# EAGLE library part NRF52840-QI (library IC_Wireless-RF)
Bluetooth®5, IEEE 802.15.4-2006, 2.4 GHz transceiver - SoC Datasheet <https://infocenter.nordicsemi.com/pdf/nRF52840_PS_v1.1.pdf> Note : This Part needs to add a thermal vias on VSS_PAD while designing a board.
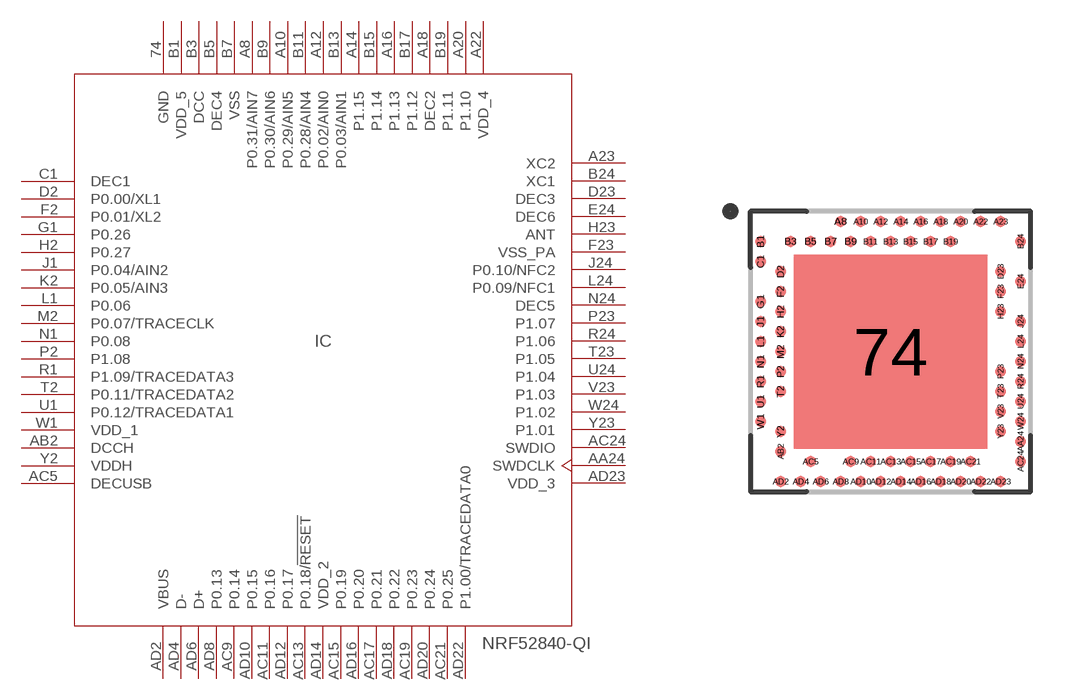
[diagram p19: symbol with the pads of NRF52840-QIAA; footprint NRF52840-QIAA]

Designator prefix IC

## NRF52840-QIAA-R (CATEGORY: IC_Wireless-RF; DESCRIPTION: Bluetooth ® 5, IEEE 802.15.4-2006, 2.4 GHz transceiver; FREQUENCY: 64MHz; IO: 48; MANUFACTURER: Nordic Semiconductor; MPN: nRF52840-QIAA-R; PART_STATUS: Active; ROHS_COMPLIANT: COMPLIANT; SERIES: nRF52840; SUB-CATEGORY: Bluetooth; VALUE: NRF52840)  [NRF52840-QIAA]
74  GND  pwr
A8  P0.31/AIN7
A10  P0.29/AIN5
A12  P0.02/AIN0
A14  P1.15
A16  P1.13
A18  DEC2  pwr
A20  P1.10
A22  VDD_4  pwr
A23  XC2  in
AA24  SWDCLK  in
AB2  DCCH  pwr
AC5  DECUSB  pwr
AC9  P0.14
AC11  P0.16
AC13  P0.18/!RESET
AC15  P0.19
AC17  P0.21
AC19  P0.23
AC21  P0.25
AC24  SWDIO
AD2  VBUS  pwr
AD4  D-
AD6  D+
AD8  P0.13
AD10  P0.15
AD12  P0.17
AD14  VDD_2  pwr
AD16  P0.20
AD18  P0.22
AD20  P0.24
AD22  P1.00/TRACEDATA0
AD23  VDD_3  pwr
B1  VDD_5  pwr
B3  DCC  pwr
B5  DEC4  pwr
B7  VSS  pwr
B9  P0.30/AIN6
B11  P0.28/AIN4
B13  P0.03/AIN1
B15  P1.14
B17  P1.12
B19  P1.11
B24  XC1  in
C1  DEC1  pwr
D2  P0.00/XL1
D23  DEC3  pwr
E24  DEC6  pwr
F2  P0.01/XL2
F23  VSS_PA  pwr
G1  P0.26
H2  P0.27
H23  ANT
J1  P0.04/AIN2
J24  P0.10/NFC2
K2  P0.05/AIN3
L1  P0.06
L24  P0.09/NFC1
M2  P0.07/TRACECLK
N1  P0.08
N24  DEC5  pwr
P2  P1.08
P23  P1.07
R1  P1.09/TRACEDATA3
R24  P1.06
T2  P0.11/TRACEDATA2
T23  P1.05
U1  P0.12/TRACEDATA1
U24  P1.04
V23  P1.03
W1  VDD_1  pwr
W24  P1.02
Y2  VDDH  pwr
Y23  P1.01

## Footprint NRF52840-QIAA (pad centres in mm)
smd 4.85 x 4.85: 74 0,0
smd 0.275 x 0.275: A8 -1.25,3.25; A10 -0.75,3.25; A12 -0.25,3.25; A14 0.25,3.25; A16 0.75,3.25; A18 1.25,3.25; A20 1.75,3.25; A22 2.25,3.25; A23 2.75,3.25; AA24 3.25,-2.25; AB2 -2.75,-2.5; AC5 -2,-2.75; AC9 -1,-2.75; AC11 -0.5,-2.75; AC13 0,-2.75; AC15 0.5,-2.75; AC17 1,-2.75; AC19 1.5,-2.75; AC21 2,-2.75; AC24 3.25,-2.75; AD2 -2.75,-3.25; AD4 -2.25,-3.25; AD6 -1.75,-3.25; AD8 -1.25,-3.25; AD10 -0.75,-3.25; AD12 -0.25,-3.25; AD14 0.25,-3.25; AD16 0.75,-3.25; AD18 1.25,-3.25; AD20 1.75,-3.25; AD22 2.25,-3.25; AD23 2.75,-3.25; B1 -3.25,2.75; B3 -2.5,2.75; B5 -2,2.75; B7 -1.5,2.75; B9 -1,2.75; B11 -0.5,2.75; B13 0,2.75; B15 0.5,2.75; B17 1,2.75; B19 1.5,2.75; B24 3.25,2.75; C1 -3.25,2.25; D2 -2.75,2; D23 2.75,2; E24 3.25,1.75; F2 -2.75,1.5; F23 2.75,1.5; G1 -3.25,1.25; H2 -2.75,1; H23 2.75,1; J1 -3.25,0.75; J24 3.25,0.75; K2 -2.75,0.5; L1 -3.25,0.25; L24 3.25,0.25; M2 -2.75,0; N1 -3.25,-0.25; N24 3.25,-0.25; P2 -2.75,-0.5; P23 2.75,-0.5; R1 -3.25,-0.75; R24 3.25,-0.75; T2 -2.75,-1; T23 2.75,-1; U1 -3.25,-1.25; U24 3.25,-1.25; V23 2.75,-1.5; W1 -3.25,-1.75; W24 3.25,-1.75; Y2 -2.75,-2; Y23 2.75,-2